# EAGLE library part ADS124S08IPBSR (library ADS127L01_ADC)
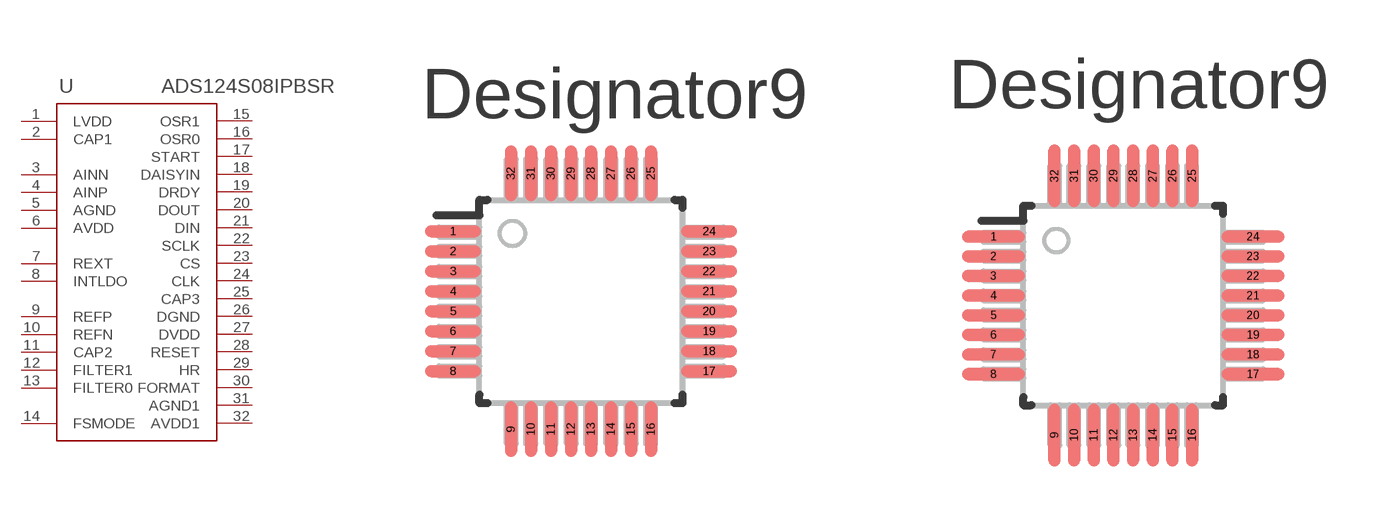
[diagram p0: symbol with the pads of PBS0032A_N; footprints PBS0032A_N, PBS0032A_M]

Designator prefix U

## ADS124S08IPBSR  [PBS0032A_N]
1  LVDD  in
2  CAP1  in
3  AINN  in
4  AINP  in
5  AGND  in
6  AVDD  in
7  REXT  in
8  INTLDO  in
9  REFP  in
10  REFN  in
11  CAP2  in
12  FILTER1  out
13  FILTER0  out
14  FSMODE  pwr
15  OSR1  pwr
16  OSR0  pwr
17  START  in
18  DAISYIN  in
19  DRDY
20  DOUT
21  DIN
22  SCLK
23  CS  out
24  CLK  out
25  CAP3  pas
26  DGND  pwr
27  DVDD  pwr
28  RESET  pwr
29  HR  in
30  FORMAT  in
31  AGND1  in
32  AVDD1  in

## ADS124S08IPBSRPBS0032A_M  [PBS0032A_M]
Pads as for PBS0032A_N

## ADS124S08IPBSRPBS0032A_L  [PBS0032A_L]
Pads as for PBS0032A_N

## Footprint PBS0032A_N (pad centres in mm)
smd 1.4 x 0.3: 1 -3.2,1.75; 2 -3.2,1.25; 3 -3.2,0.75; 4 -3.2,0.25; 5 -3.2,-0.25; 6 -3.2,-0.75; 7 -3.2,-1.25; 8 -3.2,-1.75; 17 3.2,-1.75; 18 3.2,-1.25; 19 3.2,-0.75; 20 3.2,-0.25; 21 3.2,0.25; 22 3.2,0.75; 23 3.2,1.25; 24 3.2,1.75
smd 0.3 x 1.4: 9 -1.75,-3.2; 10 -1.25,-3.2; 11 -0.75,-3.2; 12 -0.25,-3.2; 13 0.25,-3.2; 14 0.75,-3.2; 15 1.25,-3.2; 16 1.75,-3.2; 25 1.75,3.2; 26 1.25,3.2; 27 0.75,3.2; 28 0.25,3.2; 29 -0.25,3.2; 30 -0.75,3.2; 31 -1.25,3.2; 32 -1.75,3.2

## Footprint PBS0032A_M (pad centres in mm)
smd 1.6 x 0.3: 1 -3.3,1.75; 2 -3.3,1.25; 3 -3.3,0.75; 4 -3.3,0.25; 5 -3.3,-0.25; 6 -3.3,-0.75; 7 -3.3,-1.25; 8 -3.3,-1.75; 17 3.3,-1.75; 18 3.3,-1.25; 19 3.3,-0.75; 20 3.3,-0.25; 21 3.3,0.25; 22 3.3,0.75; 23 3.3,1.25; 24 3.3,1.75
smd 0.3 x 1.6: 9 -1.75,-3.3; 10 -1.25,-3.3; 11 -0.75,-3.3; 12 -0.25,-3.3; 13 0.25,-3.3; 14 0.75,-3.3; 15 1.25,-3.3; 16 1.75,-3.3; 25 1.75,3.3; 26 1.25,3.3; 27 0.75,3.3; 28 0.25,3.3; 29 -0.25,3.3; 30 -0.75,3.3; 31 -1.25,3.3; 32 -1.75,3.3

## Footprint PBS0032A_L (pad centres in mm)
smd 1.2 x 0.3: 1 -3.1,1.75; 2 -3.1,1.25; 3 -3.1,0.75; 4 -3.1,0.25; 5 -3.1,-0.25; 6 -3.1,-0.75; 7 -3.1,-1.25; 8 -3.1,-1.75; 17 3.1,-1.75; 18 3.1,-1.25; 19 3.1,-0.75; 20 3.1,-0.25; 21 3.1,0.25; 22 3.1,0.75; 23 3.1,1.25; 24 3.1,1.75
smd 0.3 x 1.2: 9 -1.75,-3.1; 10 -1.25,-3.1; 11 -0.75,-3.1; 12 -0.25,-3.1; 13 0.25,-3.1; 14 0.75,-3.1; 15 1.25,-3.1; 16 1.75,-3.1; 25 1.75,3.1; 26 1.25,3.1; 27 0.75,3.1; 28 0.25,3.1; 29 -0.25,3.1; 30 -0.75,3.1; 31 -1.25,3.1; 32 -1.75,3.1